# EAGLE library part AS5600 (library AS5600)
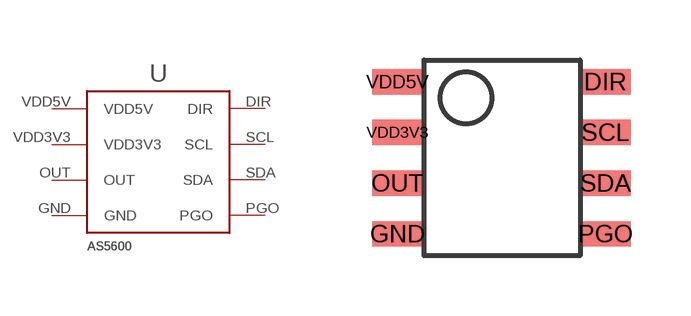
[diagram p0: symbol with the pads of AS5600; footprint AS5600]

Designator prefix U

## AS5600  [AS5600]
DIR  DIR
GND  GND
OUT  OUT
PGO  PGO
SCL  SCL
SDA  SDA
VDD3V3  VDD3V3
VDD5V  VDD5V

## Footprint AS5600 (pad centres in mm)
smd 1.27 x 0.635: DIR 2.585,1.905; GND -2.615,-1.905; OUT -2.615,-0.635; PGO 2.585,-1.905; SCL 2.585,0.635; SDA 2.585,-0.635; VDD3V3 -2.615,0.635; VDD5V -2.615,1.905